# EAGLE library part MMA7341L (library misc)
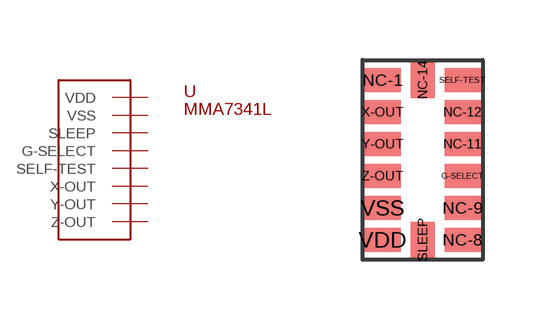
[diagram p0: symbol with the pads of MMA7341L; footprint MMA7341L]

Designator prefix -

## MMA7341L  [MMA7341L]
G-SELECT  G-SELECT
SELF-TEST  SELF-TEST
SLEEP  SLEEP
VDD  VDD
VSS  VSS
X-OUT  X-OUT
Y-OUT  Y-OUT
Z-OUT  Z-OUT

## Footprint MMA7341L (pad centres in mm)
smd 0.9 x 0.6: G-SELECT 1,-0.4; NC-1 -1,2; NC-8 1,-2; NC-9 1,-1.2; NC-11 1,0.4; NC-12 1,1.2; SELF-TEST 1,2; VDD -1,-2; VSS -1,-1.2; X-OUT -1,1.2; Y-OUT -1,0.4; Z-OUT -1,-0.4
smd 0.6 x 0.9: NC-14 0,2; SLEEP 0,-2